# Altium integrated library ACS758LCB-100B-PFF-T.IntLib: 1 symbol
Pins are listed as number, name and electrical type; pins without a type are passive.

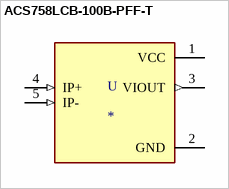
[diagram p0: symbol ACS758LCB-100B-PFF-T]

## ACS758LCB-100B-PFF-T
designator U
Current Sensor 100A 1 Channel Hall Effect, Open Loop Bidirectional 5-CB Formed Leads, PFF; MP: ACS758LCB-100B-PFF-T; MF: Allegro; Price: None; SnapEDA_Link: https://www.snapeda.com/parts/ACS758LCB-100B-PFF-T/Allegro%20Industries/view-part/87342/?ref=snap; Package: 5-CB-5 Allegro MicroSystems LLC; Value: *; Availability: Unavailable
footprint XDCR_ACS770KCB-150U-PFF-T
pins: 1 VCC (power), 2 GND (power), 3 VIOUT (out), 4 IP+ (in), 5 IP- (in)